# Altium schematic symbol library Blutooth_module.SchLib: 1 symbol
Pins are listed as number, name and electrical type; pins without a type are passive.

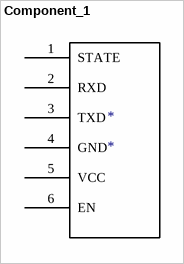
[diagram p0: symbol Component_1]

## Component_1
designator *
footprint PCBComponent_1
pins: 1 STATE, 2 RXD, 3 TXD, 4 GND, 5 VCC, 6 EN